# EAGLE library part A79622-001 (library hs-64-spi)
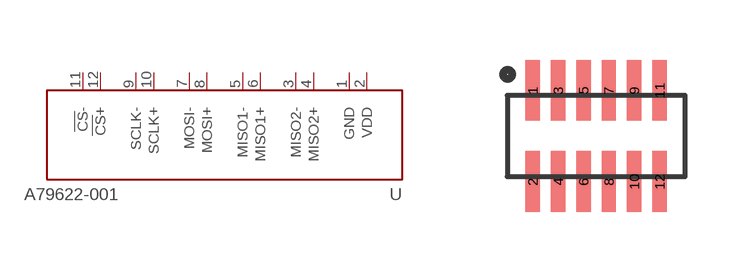
[diagram p0: symbol with the pads of A79622-001; footprint A79622-001]

Designator prefix -

## A79622-001  [A79622-001]
1  GND  pwr
2  VDD
3  MISO2-
4  MISO2+
5  MISO1-
6  MISO1+
7  MOSI-
8  MOSI+
9  SCLK-
10  SCLK+
11  !CS!-
12  !CS!+

## Footprint A79622-001 (pad centres in mm)
smd 0.36 x 1.524: 1 -1.587,1.143; 2 -1.587,-1.143; 3 -0.953,1.143; 4 -0.953,-1.143; 5 -0.318,1.143; 6 -0.318,-1.143; 7 0.318,1.143; 8 0.318,-1.143; 9 0.953,1.143; 10 0.953,-1.143; 11 1.587,1.143; 12 1.587,-1.143